# Altium footprint library IND(1uH, 7A, 20mOhm, 62MHz, SMD).PcbLib: 3 footprints
Each footprint in its own frame and in the unit in brackets; x right, y up, seen from the top. Pads: shape width x height; smd on the part's side, far side on the other; paste and mask are expansions set on the pad; w line width, h text height; cw(c..) or ccw(c..) is an arc to the next point about the centre after c.
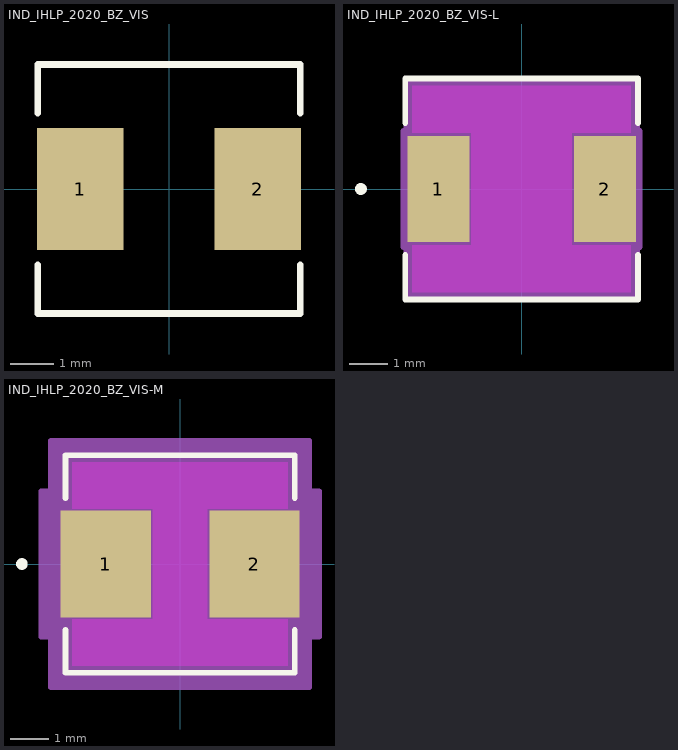
[diagram p0: the footprints below, top view; thin cyan lines are the x and y axes]

## IND_IHLP_2020_BZ_VIS [mil]
pads (2):
  rect 78x110 smd paste+0 mask+0: 1(-80,0) 2(80,0)
Top Overlay:
  lines w6: -118,-68.1 -118,-112 118,-112 118,-68.1 ; -118,68.1 -118,112 118,112 118,68.1
3D body "IHLP2020BZ.step": height 76.07, standoff 0.57, extent -107.3,-100 107.3,102.6

## IND_IHLP_2020_BZ_VIS-L [mil]
pads (2):
  rect 63x108 smd paste+0 mask+0: 1(-84.5,0) 2(84.5,0)
Top Layer keep-out:
  region: -51,-57 -51,57 51,57 51,-57
  region: -111,57 -111,105 111,105 111,57
  region: -111,-105 -111,-57 111,-57 111,-105
Top Overlay:
  circle w6: c-163,0 r3
  lines w6: -118,-66.95 -118,-112 118,-112 118,-66.95 ; -118,66.95 -118,112 118,112 118,66.95
  text ".Designator" at -137.5,-25 h50
Keep-Out Layer:
  region: -51,-57 -51,57 51,57 51,-57
Mechanical 13:
  circle w1: c-93,0 r3
  lines w1: -113,-107 113,-107 113,107 -113,107 -113,-107
  text ".Designator" at -137.5,-25 h50
Mechanical 15:
  region: -117,-59 -120,-59 -120,59 -117,59 -117,111 117,111 117,59 120,59 120,-59 117,-59 117,-111 -117,-111
  lines w6: -120,-59 -120,59 -117,59 -117,111 117,111 117,59 120,59 120,-59 117,-59 117,-111 -117,-111 -117,-59 -120,-59
3D body "IND_IHLP_2020_BZ_VIS.step": height 80, standoff 0, extent -112.99,-107.01 112.99,107.01

## IND_IHLP_2020_BZ_VIS-M [mil]
pads (2):
  rect 93x110 smd paste+0 mask+0: 1(-76.5,0) 2(76.5,0)
Top Layer keep-out:
  region: -28,-57 -28,57 28,57 28,-57
  region: -111,57 -111,105 111,105 111,57
  region: -111,-105 -111,-57 111,-57 111,-105
Top Overlay:
  circle w6: c-163,0 r3
  lines w6: -118,-68.1 -118,-112 118,-112 118,-68.1 ; -118,68.1 -118,112 118,112 118,68.1
  text ".Designator" at -137.5,-25 h50
Keep-Out Layer:
  region: -28,-57 -28,57 28,57 28,-57
Mechanical 13:
  circle w1: c-93,0 r3
  lines w1: -113,-107 113,-107 113,107 -113,107 -113,-107
  text ".Designator" at -137.5,-25 h50
Mechanical 15:
  region: -133,-75 -143,-75 -143,75 -133,75 -133,127 133,127 133,75 143,75 143,-75 133,-75 133,-127 -133,-127
  lines w6: -143,-75 -143,75 -133,75 -133,127 133,127 133,75 143,75 143,-75 133,-75 133,-127 -133,-127 -133,-75 -143,-75
3D body "IND_IHLP_2020_BZ_VIS.step": height 80, standoff 0, extent -112.99,-107.01 112.99,107.01